# EAGLE library part TA32-11 (library kingbright)
TA23-11 Kingbright 8x8 LAD Matrix
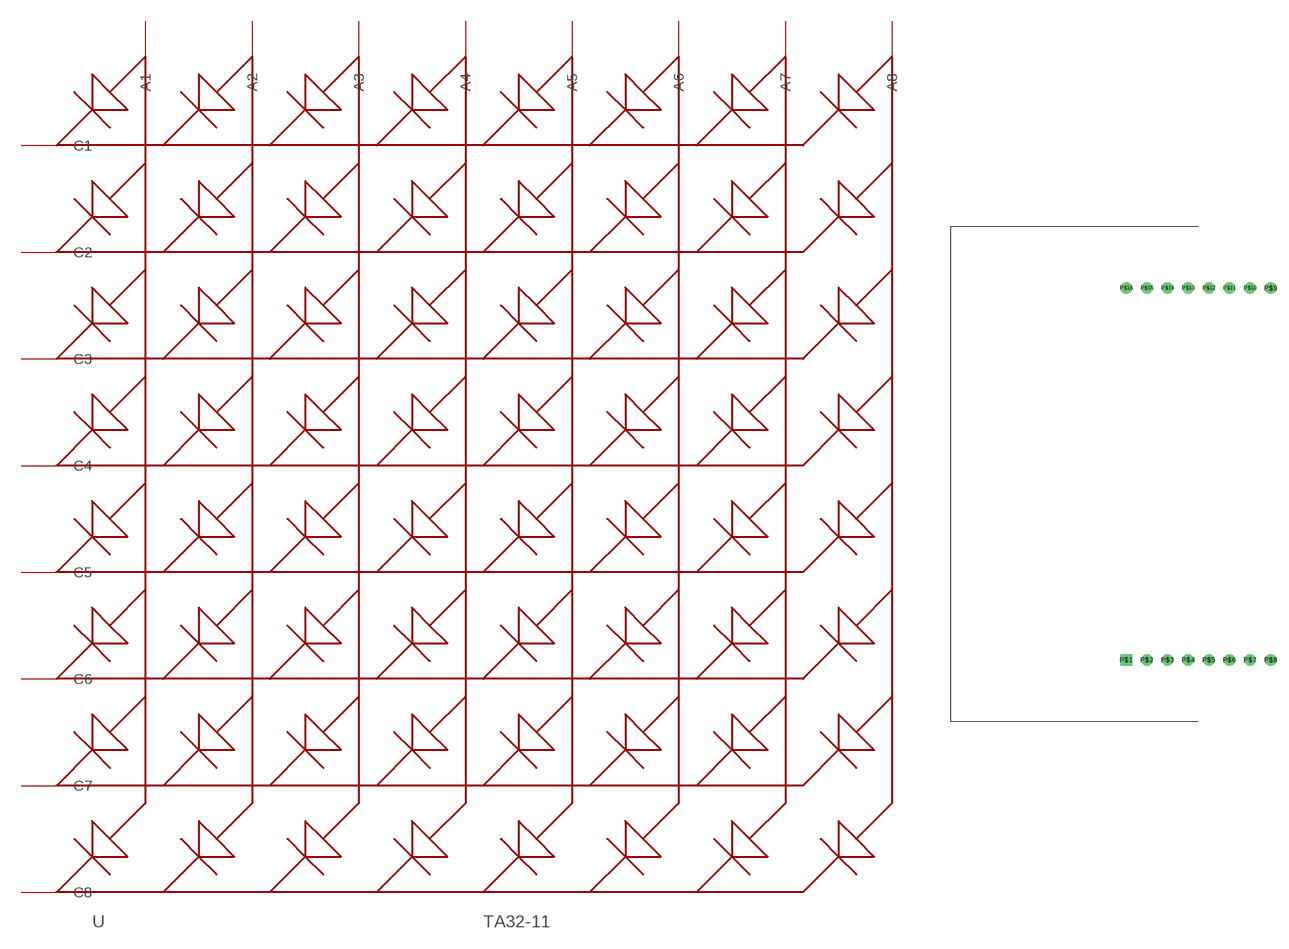
[diagram p0: symbol with the pads of TA23-11; footprint TA23-11]

Designator prefix -

## TA32-11  [TA23-11]
P$1  C5
P$2  C7
P$3  A2
P$4  A3
P$5  C8
P$6  A5
P$7  C6
P$8  C3
P$9  C1
P$10  A4
P$11  A6
P$12  C4
P$13  A1
P$14  C2
P$15  A7
P$16  A8

## Footprint TA23-11 (pad centres in mm)
TA23-11 8x8 LED Matrix
drill 0.6 pad 1.422 square: P$1 0,0
drill 0.6 pad 1.422 round: P$2 2.54,0; P$3 5.08,0; P$4 7.62,0; P$5 10.16,0; P$6 12.7,0; P$7 15.24,0; P$8 17.78,0; P$9 17.78,45.72; P$10 15.24,45.72; P$11 12.7,45.72; P$12 10.16,45.72; P$13 7.62,45.72; P$14 5.08,45.72; P$15 2.54,45.72; P$16 0,45.72